# Altium schematic symbol library arduino.SchLib: 22 symbols
Pins are listed as number, name and electrical type; pins without a type are passive.

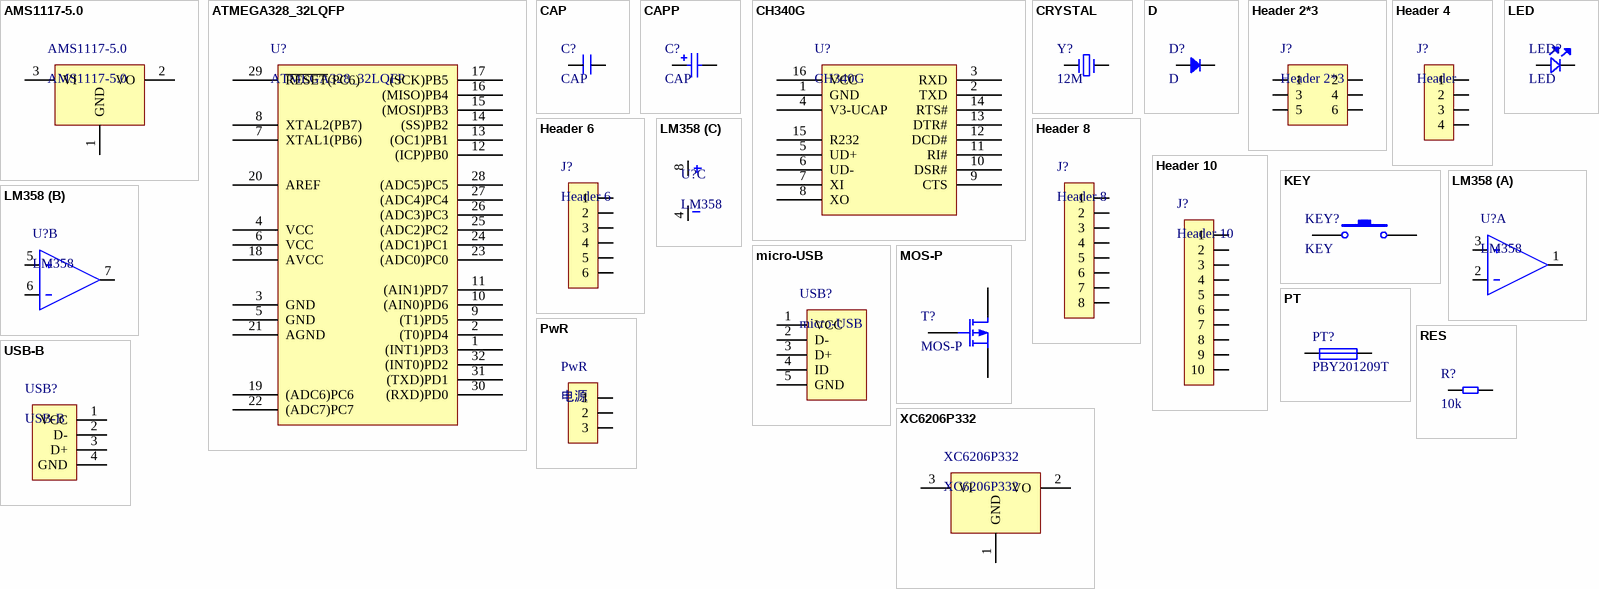
[diagram p0: symbols AMS1117-5.0 to XC6206P332]

## AMS1117-5.0
designator AMS1117-5.0
footprint AMS1117-5.0
pins: 1 GND, 2 VO, 3 VI

## ATMEGA328_32LQFP
designator U?
footprint ATMEGA328P-AU
pins: 1 (INT1)PD3, 2 (T0)PD4, 3 GND, 4 VCC, 5 GND, 6 VCC, 7 XTAL1(PB6), 8 XTAL2(PB7), 9 (T1)PD5, 10 (AIN0)PD6, 11 (AIN1)PD7, 12 (ICP)PB0, 13 (OC1)PB1, 14 (SS)PB2, 15 (MOSI)PB3, 16 (MISO)PB4, 17 (SCK)PB5, 18 AVCC, 19 (ADC6)PC6, 20 AREF, 21 AGND, 22 (ADC7)PC7, 23 (ADC0)PC0, 24 (ADC1)PC1, 25 (ADC2)PC2, 26 (ADC3)PC3, 27 (ADC4)PC4, 28 (ADC5)PC5, 29 ~{RESET}(PC6), 30 (RXD)PD0, 31 (TXD)PD1, 32 (INT0)PD2

## CAP
designator C?
footprint 0805C
pins: 1, 2

## CAPP
designator C?, comment CAP
footprint CAP_P
pins: 1, 2

## CH340G
designator U?
footprint CH340G
pins: 1 GND, 2 TXD, 3 RXD, 4 V3-UCAP, 5 UD+, 6 UD-, 7 XI, 8 XO, 9 CTS, 10 DSR#, 11 RI#, 12 DCD#, 13 DTR#, 14 RTS#, 15 R232, 16 VCC

## CRYSTAL
designator Y?, comment 12M
footprint CRYSTAL
pins: 1, 2

## D
designator D?
footprint 1206D
pins: 1, 2

## Header 2*3
designator J?
footprint PIN2*3
pins: 1, 2, 3, 4, 5, 6

## Header 4
designator J?, comment Header
footprint PIN4
pins: 1, 2, 3, 4

## Header 6
designator J?
footprint PIN6
pins: 1, 2, 3, 4, 5, 6

## Header 8
designator J?
footprint PIN8
pins: 1, 2, 3, 4, 5, 6, 7, 8

## Header 10
designator J?
footprint PIN10
pins: 1, 2, 3, 4, 5, 6, 7, 8, 9, 10

## KEY
designator KEY?
footprint KEY
pins: 2, 3

## LED
designator LED?
footprint 0805L
pins: 1, 2

## LM358
designator U?
footprint LM358
part A pins: 1, 2, 3
part B pins: 5, 6, 7
part C pins: 4, 8

## micro-USB
designator USB?
footprint micro-usb
pins: 1 VCC, 2 D-, 3 D+, 4 ID, 5 GND

## MOS-P
designator T?
footprint SI2301
pins: 1 G, 2 S, 3 D

## PT
designator PT?, comment PBY201209T
footprint PT
pins: 1, 2

## PwR
designator PwR, comment 电源
footprint DC005
pins: 1, 2, 3

## RES
designator R?, comment 10k
footprint 0805R
pins: 1, 2

## USB-B
designator USB?
footprint USB-B
pins: 1 VCC, 2 D-, 3 D+, 4 GND

## XC6206P332
designator XC6206P332
footprint XC626P332
pins: 1 GND, 2 VO, 3 VI